# EAGLE library part ATTINY404 (library Library)
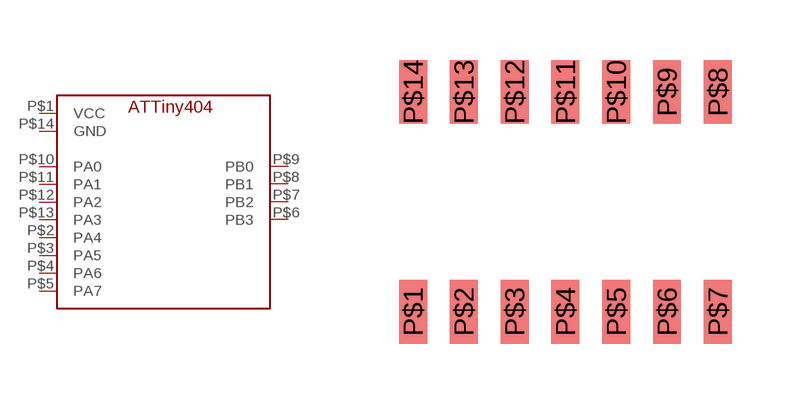
[diagram p0: symbol with the pads of 14-SOIC; footprint 14-SOIC]

Designator prefix -

## ATTINY404  [14-SOIC]
P$1  VCC
P$2  PA4
P$3  PA5
P$4  PA6
P$5  PA7
P$6  PB3
P$7  PB2
P$8  PB1
P$9  PB0
P$10  PA0
P$11  PA1
P$12  PA2
P$13  PA3
P$14  GND

## Footprint 14-SOIC (pad centres in mm)
smd 0.7 x 1.6: P$1 0,0; P$2 1.27,0; P$3 2.54,0; P$4 3.81,0; P$5 5.08,0; P$6 6.35,0; P$7 7.62,0; P$8 7.62,5.5; P$9 6.35,5.5; P$10 5.08,5.5; P$11 3.81,5.5; P$12 2.54,5.5; P$13 1.27,5.5; P$14 0,5.5